# Altium schematic symbol library XSS_IC.SchLib: 440 symbols (part 4 of 4)
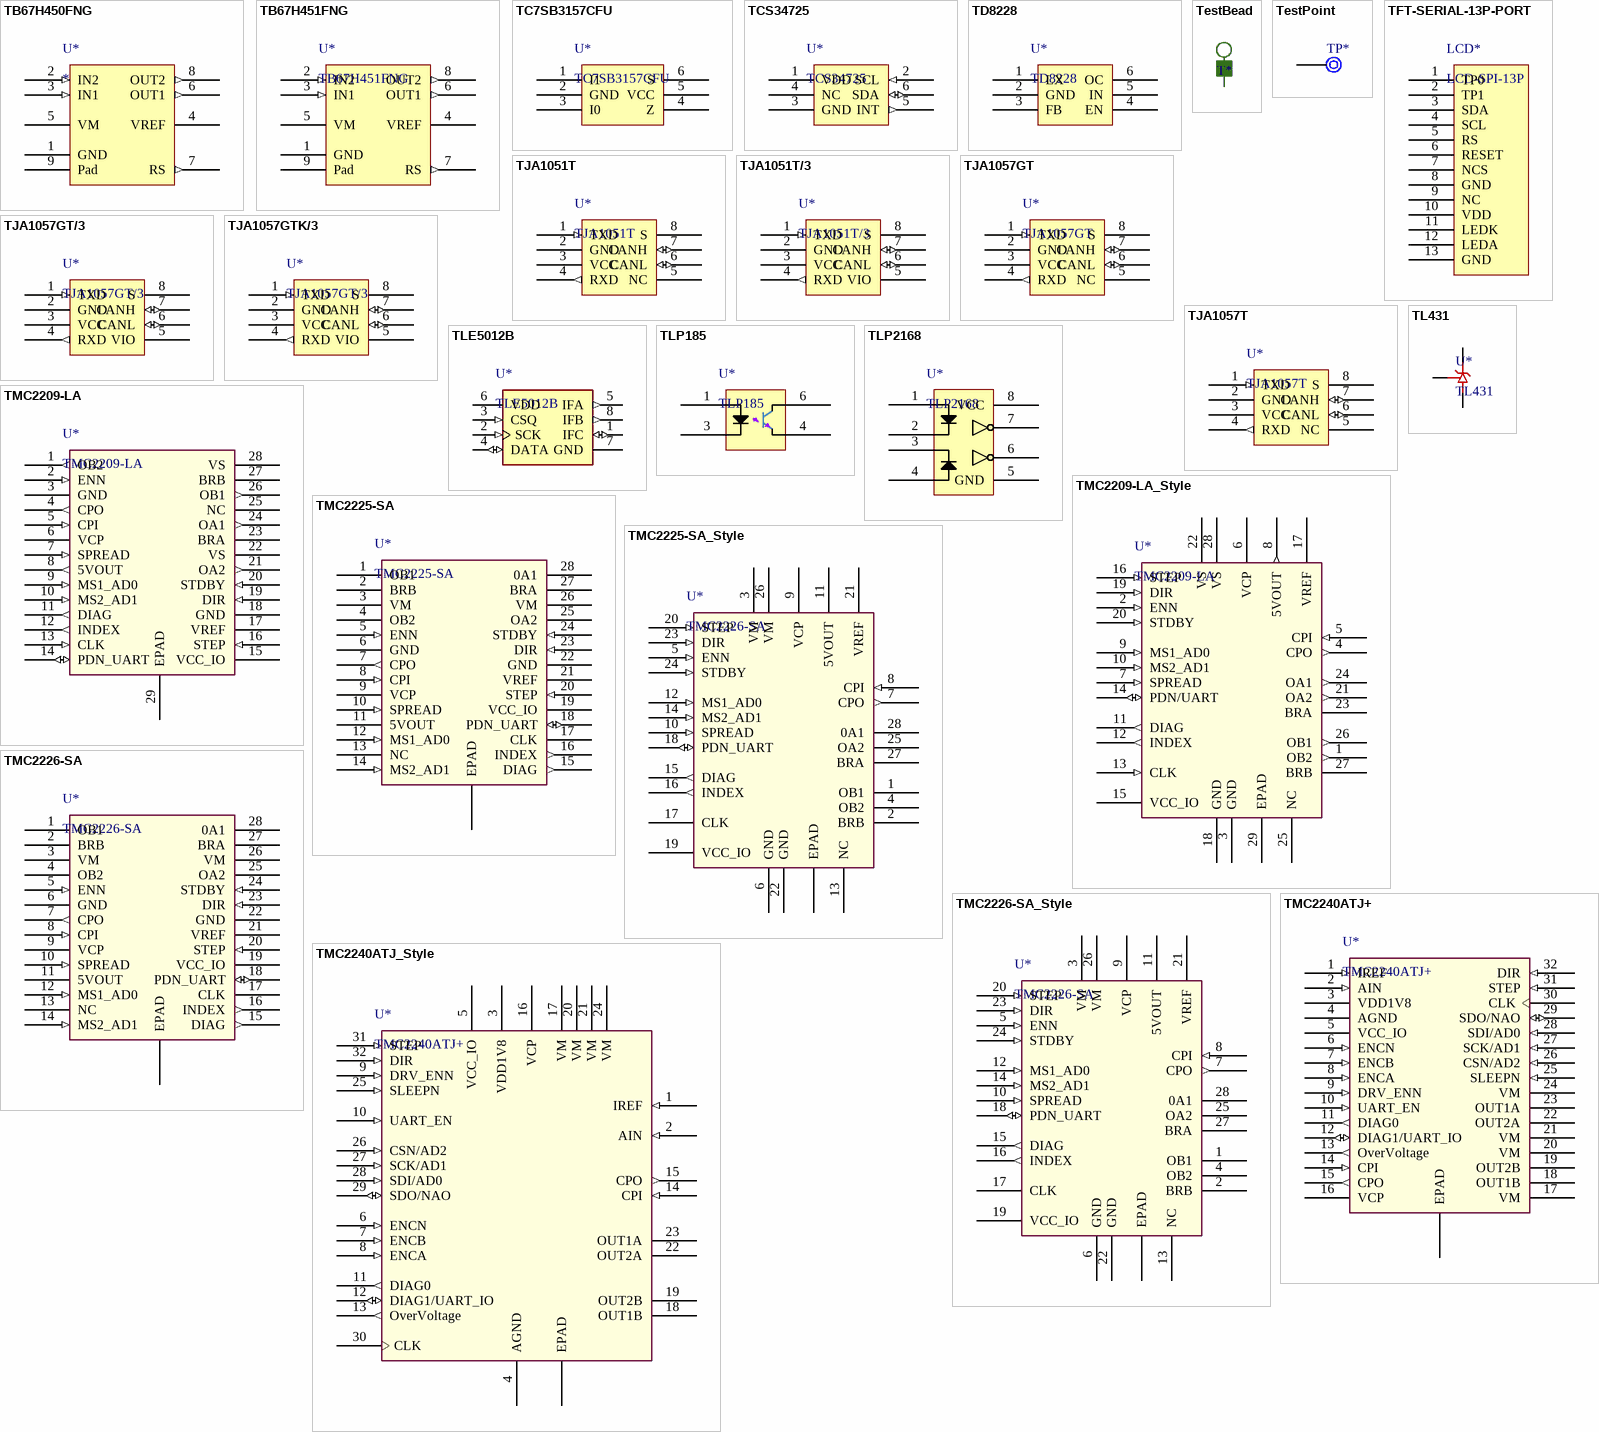
[diagram p16: symbols TB67H450FNG to TMC2240ATJ_Style]

## TCS34725
designator U*
The TCS3472 device provides a digital return of red, green, blue (RGB), and clear light sensing values.
footprint AMS_FN_6P (AMS Semi FN package,Small 2mm x 2.4mm dual flat no-lead)
pins: 1 VDD (power), 2 SCL (in), 3 GND (power), 4 NC, 5 INT (out), 6 SDA (io)

## TD8228
designator U*
Technode
footprint SOT23-6L
footprint SOT23-6AN (SOT23, 6-Leads, Body 2.9x1.6mm, Pitch 0.95mm, Lead Span 2.5mm, IPC Medium Density)
footprint SOT23-6AL
pins: 1 LX, 2 GND, 3 FB, 4 EN, 5 IN, 6 OC

## TestBead
designator T*, comment TestPoint  (value not drawn)
Test Point(bead) with hole
footprint TestBead_φ1.0 (test point(bead) package with a hole(φ1.0),Suit for small size)
footprint TestBead_φ1.6 (test point(bead) package with a hole(φ1.6). Suit for middle/large size)
pins: 1

## TestPoint
designator TP*, comment Test Point  (value not drawn)
footprint TURRETL
footprint TURRETL_SMALL
footprint TPSMD-Small
footprint TPSMD-Large
footprint TPSMD-Middle
footprint TPTRU_Header1
footprint HOLE_M3_AWG10 (Can solder ARG10 wires, hole diameter ia 3mm)
footprint HOLE_M1.8_AWG16 (Can solder ARG16/18 wires, hole diameter ia 1.8mm)
pins: 1

## TFT-SERIAL-13P-PORT
designator LCD*, comment LCD-SPI-13P
Small LCD(like 0.96/1.14 inch) with 13Pins. The interface can be solder on board directly.
footprint TFT-SERIAL-13P-PORT
pins: 1 TP0, 2 TP1, 3 SDA, 4 SCL, 5 RS, 6 RESET, 7 NCS, 8 GND, 9 NC, 10 VDD, 11 LEDK, 12 LEDA, 13 GND

## TJA1051T
designator U*
NXP, TJA1051, SO8, The TJA1051 is a high-speed CAN transceiver that provides an interface between a Controller Area Network (CAN) protocol controller and the physical two-wire CAN bus.
footprint SOIC_D8 (TI SOIC-D8)
footprint SOIC_D8-L (TI TI SOIC_D8 L)
footprint SOIC_D8-M (TI SOIC_D8 M)
pins: 1 TXD (in), 2 GND (power), 3 VCC (power), 4 RXD (out), 5 NC, 6 CANL (io), 7 CANH (io), 8 S

## TJA1051T/3
designator U*
NXP, TJA1051, SO8, VIO can support 3~5V,The TJA1051 is a high-speed CAN transceiver that provides an interface between a Controller Area Network (CAN) protocol controller and the physical two-wire CAN bus.
footprint SOIC_D8 (TI SOIC-D8)
footprint SOIC_D8-L (TI TI SOIC_D8 L)
footprint SOIC_D8-M (TI SOIC_D8 M)
pins: 1 TXD (in), 2 GND (power), 3 VCC (power), 4 RXD (out), 5 VIO, 6 CANL (io), 7 CANH (io), 8 S

## TJA1057GT
designator U*
NXP, 5V High-speed CAN transceiver, support CAN FD, SO8 package
footprint SOIC_D8 (TI SOIC-D8)
footprint SOIC_D8-L (TI TI SOIC_D8 L)
footprint SOIC_D8-M (TI SOIC_D8 M)
pins: 1 TXD (in), 2 GND (power), 3 VCC (power), 4 RXD (out), 5 NC, 6 CANL (io), 7 CANH (io), 8 S

## TJA1057GT/3
designator U*
NXP, 5V High-speed CAN transceiver, support3~5V IO, support CAN FD, SO8 package
footprint SOIC_D8 (TI SOIC-D8)
footprint SOIC_D8-L (TI TI SOIC_D8 L)
footprint SOIC_D8-M (TI SOIC_D8 M)
pins: 1 TXD (in), 2 GND (power), 3 VCC (power), 4 RXD (out), 5 VIO (power), 6 CANL (io), 7 CANH (io), 8 S

## TJA1057GTK/3
designator U*, comment TJA1057GT/3
NXP, 5V High-speed CAN transceiver, support3~5V IO, support CAN FD, HVSON8 package
footprint HVSON8
pins: 1 TXD (in), 2 GND (power), 3 VCC (power), 4 RXD (out), 5 VIO (power), 6 CANL (io), 7 CANH (io), 8 S

## TJA1057T
designator U*
NXP, 5V High-speed CAN transceiver, can not support CAN FD, SO8 package
footprint SOIC_D8 (TI SOIC-D8)
footprint SOIC_D8-L (TI TI SOIC_D8 L)
footprint SOIC_D8-M (TI SOIC_D8 M)
pins: 1 TXD (in), 2 GND (power), 3 VCC (power), 4 RXD (out), 5 NC, 6 CANL (io), 7 CANH (io), 8 S

## TL431
designator U*
TL431, Nexperia/MOD/TI( and others), ADJUSTABLE PRECISION SHUNT REGULATORS, 0.5%, ?PPM/℃
footprint SOT23 (Different with SOT-3 here. It is the normal pin sequence)
pins: 1, 2, 3

## TLE5012B
designator U*
Infineon, TLE5012B magnetic angle sensor for steering angle measurement. SOIC-8(PG-DSO-8) package.
footprint Infineon_PG-DSO-8 (Infineon, SOIC-8(PG-DSO-8), 5mm x 4mm)
pins: 1 IFC (io) "Interface C: External Clock / IIF Index / Hall Switch Signal 3", 2 SCK (in) "SSC Clock", 3 CSQ (in) "SSC Chip Select", 4 DATA (io) "SSC Data", 5 IFA (out) "Interface A: IIF Phase A / Hall Switch Signal 1 / PWM / SPC output", 6 VDD (power) "Supply Voltage", 7 GND (power) "Ground", 8 IFB (out) "Interface B: IIF Phase B / Hall Switch Signal 2"

## TLP185
designator U*
Toshiba, 4 PIN SOP Single CHANNEL Optocoupler
footprint Toshiba-Optocoupler-4PSOP6 (Toshiba Optocoupler Package 4Pin SOP6:  3.7×7.0×2.1)
pins: 1 A, 3 K, 4 S, 6 C

## TLP2168
designator U*
Toshiba, 8 PIN SOP DUAL CHANNEL HIGH SPEED / 20MBit/s LOGIC GATE PHOTOCOUPLER
footprint Toshiba-Optocoupler-SO8 (Toshiba Optocoupler Package SO8: 5.1×6.0×2.5)
pins: 1 1A, 2 1K, 3 2K, 4 2A, 5 GND, 6 2C, 7 1E, 8 VCC

## TMC2209-LA
designator U*
The TMC2209 is an ultra-silent motor driver / IC for two phase stepper motors.  From TRINAMIC. Package is QFN 28 with EPAD
footprint QFN28_5x5_TRI (trinamic motion driver package:QFN28. 5mmx5mm)
footprint QFN28_5x5_TRI-L (trinamic motion driver package:QFN28. 5mmx5mm)
footprint QFN28_5x5_TRI-M (trinamic motion driver package:QFN28. 5mmx5mm)
pins: 1 OB2 (out), 2 ENN (in), 3 GND (power), 4 CPO (out), 5 CPI (in), 6 VCP (power), 7 SPREAD (in), 8 5VOUT (out), 9 MS1_AD0 (in), 10 MS2_AD1 (in), 11 DIAG (out), 12 INDEX (out), 13 CLK (in), 14 PDN_UART (io), 15 VCC_IO (power), 16 STEP (in), 17 VREF, 18 GND (power), 19 DIR (in), 20 STDBY (in), 21 OA2 (out), 22 VS (power), 23 BRA, 24 OA1 (out), 25 NC, 26 OB1 (out), 27 BRB, 28 VS (power), 29 EPAD

## TMC2209-LA_Style
designator U*, comment TMC2209-LA
The TMC2209 is an ultra-silent motor driver / IC for two phase stepper motors.  From TRINAMIC. Package is QFN 28 with EPAD
footprint QFN28_5x5_TRI (trinamic motion driver package:QFN28. 5mmx5mm)
footprint QFN28_5x5_TRI-L (trinamic motion driver package:QFN28. 5mmx5mm)
footprint QFN28_5x5_TRI-M (trinamic motion driver package:QFN28. 5mmx5mm)
pins: 1 OB2 (out), 2 ENN (in), 3 GND (power), 4 CPO (out), 5 CPI (in), 6 VCP (power), 7 SPREAD (in), 8 5VOUT (out), 9 MS1_AD0 (in), 10 MS2_AD1 (in), 11 DIAG (out), 12 INDEX (out), 13 CLK (in), 14 PDN/UART (io), 15 VCC_IO (power), 16 STEP (in), 17 VREF (power), 18 GND (power), 19 DIR (in), 20 STDBY (in), 21 OA2 (out), 22 VS (power), 23 BRA, 24 OA1 (out), 25 NC, 26 OB1 (out), 27 BRB, 28 VS (power), 29 EPAD

## TMC2225-SA
designator U*
The TMC2225 from Trinamic provides an integrated motor driver solution for 3D-Printing, Cameras, Scanners and other automated equipment applications. The device has an integrated microstepping indexer, the completely noiseless current control mode StealthChop2™ and is intended to drive a bipolar stepper motor. The output driver block consists of low RDSon N-Channel power MOSFETs configured as full H-bridges to drive the motor windings. The TMC2225 is capable of driving up to 2A (peak) of current from each output (with proper heatsinking). TMC2225 is designed for a supply voltage of 4.75...36V. The device has a step and direction interface and can be configured with digital pins.; Phase Current, RMS: 1.4A; Motor Supply Voltage: 5~36V
footprint TMC_HTSSOP28_9.7x4.4 (trinamic HTSSOP28 package, size:9.7mm x 4.4mm, TMC2226 and TMC2225 use this footprint)
pins: 1 OB1, 2 BRB, 3 VM (power), 4 OB2, 5 ENN (in), 6 GND (power), 7 CPO (out), 8 CPI (in), 9 VCP, 10 SPREAD (in), 11 5VOUT (power), 12 MS1_AD0 (in), 13 NC, 14 MS2_AD1 (in), 15 DIAG (out), 16 INDEX (out), 17 CLK, 18 PDN_UART (io), 19 VCC_IO (power), 20 STEP (in), 21 VREF (power), 22 GND (power), 23 DIR (in), 24 STDBY (in), 25 OA2, 26 VM (power), 27 BRA, 28 0A1, EPAD

## TMC2225-SA_Style
designator U*, comment TMC2226-SA
The TMC2226 from Trinamic is an ultra-silent motor driver IC for two phase stepper motors. TRINAMIC's sophisticated StealthChop2™ chopper ensures noiseless operation, maximum efficiency and best motor torque. Its fast current regulation and optional combination with SpreadCycle™ allow highly dynamic motion while adding. StallGuard4™ provides sensorless homing. The integrated power MOSFETs handle motor currents up to 2A RMS with protection and diagnostic features for robust and reliable operation. A simple to use UART interface opens up tuning and control options. Industries’ most advanced Step/Dir stepper motor driver family upgrades designs to noiseless and most precise operation for cost-effective and highly competitive solutions.; Motor Supply Voltage: 5~36V; Phase Current, RMS: 1.4A
footprint TMC_HTSSOP28_9.7x4.4 (trinamic HTSSOP28 package, size:9.7mm x 4.4mm, TMC2226 and TMC2225 use this footprint)
pins: 1 OB1, 2 BRB, 3 VM (power), 4 OB2, 5 ENN (in), 6 GND (power), 7 CPO (out), 8 CPI (in), 9 VCP, 10 SPREAD (in), 11 5VOUT (power), 12 MS1_AD0 (in), 13 NC, 14 MS2_AD1 (in), 15 DIAG (out), 16 INDEX (out), 17 CLK, 18 PDN_UART (io), 19 VCC_IO (power), 20 STEP (in), 21 VREF (power), 22 GND (power), 23 DIR (in), 24 STDBY (in), 25 OA2, 26 VM (power), 27 BRA, 28 0A1, EPAD

## TMC2226-SA
designator U*
The TMC2226 from Trinamic is an ultra-silent motor driver IC for two phase stepper motors. TRINAMIC's sophisticated StealthChop2™ chopper ensures noiseless operation, maximum efficiency and best motor torque. Its fast current regulation and optional combination with SpreadCycle™ allow highly dynamic motion while adding. StallGuard4™ provides sensorless homing. The integrated power MOSFETs handle motor currents up to 2A RMS with protection and diagnostic features for robust and reliable operation. A simple to use UART interface opens up tuning and control options. Industries’ most advanced Step/Dir stepper motor driver family upgrades designs to noiseless and most precise operation for cost-effective and highly competitive solutions.; Motor Supply Voltage: 5~29V; Phase Current, RMS: 2.1A
footprint TMC_HTSSOP28_9.7x4.4 (trinamic HTSSOP28 package, size:9.7mm x 4.4mm, TMC2226 and TMC2225 use this footprint)
pins: 1 OB1, 2 BRB, 3 VM (power), 4 OB2, 5 ENN (in), 6 GND (power), 7 CPO (out), 8 CPI (in), 9 VCP, 10 SPREAD (in), 11 5VOUT (power), 12 MS1_AD0 (in), 13 NC, 14 MS2_AD1 (in), 15 DIAG (out), 16 INDEX (out), 17 CLK, 18 PDN_UART (io), 19 VCC_IO (power), 20 STEP (in), 21 VREF (power), 22 GND (power), 23 DIR (in), 24 STDBY (in), 25 OA2, 26 VM (power), 27 BRA, 28 0A1, EPAD

## TMC2226-SA_Style
designator U*, comment TMC2226-SA
The TMC2226 from Trinamic is an ultra-silent motor driver IC for two phase stepper motors. TRINAMIC's sophisticated StealthChop2™ chopper ensures noiseless operation, maximum efficiency and best motor torque. Its fast current regulation and optional combination with SpreadCycle™ allow highly dynamic motion while adding. StallGuard4™ provides sensorless homing. The integrated power MOSFETs handle motor currents up to 2A RMS with protection and diagnostic features for robust and reliable operation. A simple to use UART interface opens up tuning and control options. Industries’ most advanced Step/Dir stepper motor driver family upgrades designs to noiseless and most precise operation for cost-effective and highly competitive solutions.; Motor Supply Voltage: 5~29V; Phase Current, RMS: 2.1A
footprint TMC_HTSSOP28_9.7x4.4 (trinamic HTSSOP28 package, size:9.7mm x 4.4mm, TMC2226 and TMC2225 use this footprint)
pins: 1 OB1, 2 BRB, 3 VM (power), 4 OB2, 5 ENN (in), 6 GND (power), 7 CPO (out), 8 CPI (in), 9 VCP, 10 SPREAD (in), 11 5VOUT (power), 12 MS1_AD0 (in), 13 NC, 14 MS2_AD1 (in), 15 DIAG (out), 16 INDEX (out), 17 CLK, 18 PDN_UART (io), 19 VCC_IO (power), 20 STEP (in), 21 VREF (power), 22 GND (power), 23 DIR (in), 24 STDBY (in), 25 OA2, 26 VM (power), 27 BRA, 28 0A1, EPAD

## TMC2240ATJ+
designator U*
The TMC2240ATJ+ from Trinamic is a smart high-performance stepper motor driver IC with serial communication interfaces (SPI, UART) and extensive diagnosis capabilities. It combines industries’ most advanced stepper motor driver based on the 256-usteps built-in indexer and two fully integrated 36V, 3.0A (max) H-Bridges plus non-dissipative Integrated Current Sensing (ICS). / TMC2240 features abundant diagnostics and protections such as short protection / OCP, thermal shutdown, under voltage lockout. During thermal shutdown and under voltage lockout events the driver is disabled. Furthermore, TMC2240 provides functions to measure the driver temperature, estimate the motor temperature, and measure one external analog input.; Motor Supply Voltage: 4.5~36V; Phase Current, RMS: 2.1A
footprint TMC_TQFN32_5X5 (trinamic TQFN32_ package, size:5m x 5mm, TMC2240 use this footprint)
pins: 1 IREF (in), 2 AIN (in), 3 VDD1V8 (power), 4 AGND (power), 5 VCC_IO, 6 ENCN (in), 7 ENCB (in), 8 ENCA (in), 9 DRV_ENN (in), 10 UART_EN (in), 11 DIAG0 (out), 12 DIAG1/UART_IO (io), 13 OverVoltage (out), 14 CPI (in), 15 CPO (out), 16 VCP, 17 VM (power), 18 OUT1B, 19 OUT2B, 20 VM (power), 21 VM (power), 22 OUT2A, 23 OUT1A, 24 VM (power), 25 SLEEPN (in), 26 CSN/AD2 (in), 27 SCK/AD1 (in), 28 SDI/AD0 (in), 29 SDO/NAO (io), 30 CLK, 31 STEP (in), 32 DIR (in), EPAD

## TMC2240ATJ_Style
designator U*, comment TMC2240ATJ+
The TMC2240ATJ+ from Trinamic is a smart high-performance stepper motor driver IC with serial communication interfaces (SPI, UART) and extensive diagnosis capabilities. It combines industries’ most advanced stepper motor driver based on the 256-usteps built-in indexer and two fully integrated 36V, 3.0A (max) H-Bridges plus non-dissipative Integrated Current Sensing (ICS). / TMC2240 features abundant diagnostics and protections such as short protection / OCP, thermal shutdown, under voltage lockout. During thermal shutdown and under voltage lockout events the driver is disabled. Furthermore, TMC2240 provides functions to measure the driver temperature, estimate the motor temperature, and measure one external analog input.; Motor Supply Voltage: 4.5~36V; Phase Current, RMS: 2.1A
footprint TMC_TQFN32_5X5 (trinamic TQFN32_ package, size:5m x 5mm, TMC2240 use this footprint)
pins: 1 IREF (in), 2 AIN (in), 3 VDD1V8 (power), 4 AGND (power), 5 VCC_IO, 6 ENCN (in), 7 ENCB (in), 8 ENCA (in), 9 DRV_ENN (in), 10 UART_EN (in), 11 DIAG0 (out), 12 DIAG1/UART_IO (io), 13 OverVoltage (out), 14 CPI (in), 15 CPO (out), 16 VCP, 17 VM (power), 18 OUT1B, 19 OUT2B, 20 VM (power), 21 VM (power), 22 OUT2A, 23 OUT1A, 24 VM (power), 25 SLEEPN (in), 26 CSN/AD2 (in), 27 SCK/AD1 (in), 28 SDI/AD0 (in), 29 SDO/NAO (io), 30 CLK, 31 STEP (in), 32 DIR (in), EPAD

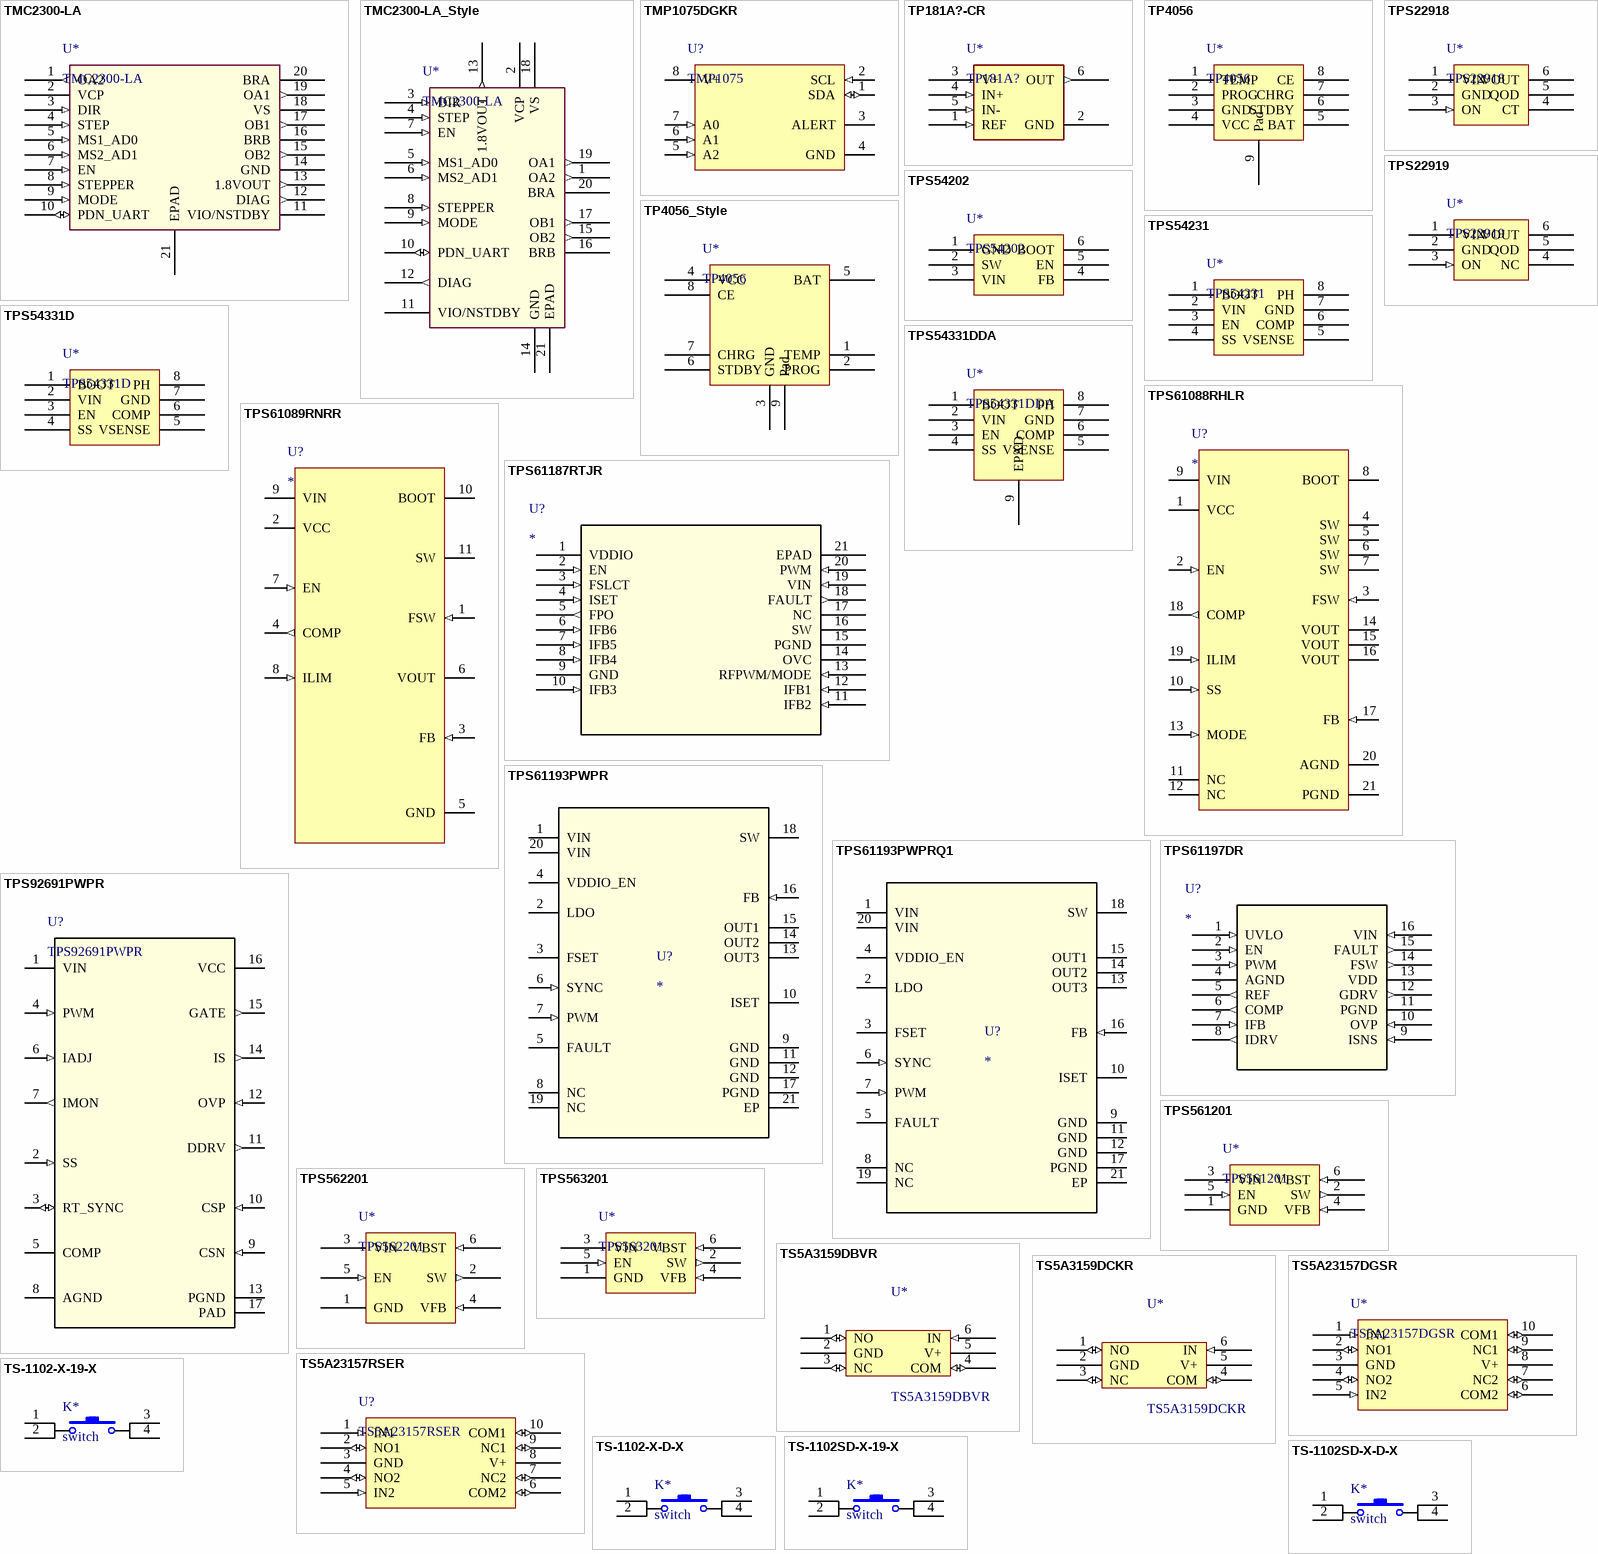
[diagram p12: symbols TMC2300-LA to TS-1102SD-X-D-X]

## TMC2300-LA
designator U*
TMC2300-LA from TRINAMIC.Low Voltage Driver for Two-Phase Stepper Motors up to 1.2A RMS - StealthChop™ for Quiet / Movement - UART Interface Option. With StallGuard Sensorless Homing and CoolStep Energy Saving.
footprint QFN20_3x3_TRI (trinamic motion driver package:QFN20. 3mmx3mm)
footprint QFN20_3x3_TRI-L (trinamic motion driver package:QFN20. 3mmx3mm)
footprint QFN20_3x3_TRI-M (trinamic motion driver package:QFN20. 3mmx3mm)
pins: 1 OA2 (out), 2 VCP (power), 3 DIR (in), 4 STEP (in), 5 MS1_AD0 (in), 6 MS2_AD1 (in), 7 EN (in), 8 STEPPER (in), 9 MODE (in), 10 PDN_UART (io), 11 VIO/NSTDBY, 12 DIAG (out), 13 1.8VOUT (out), 14 GND (power), 15 OB2 (out), 16 BRB, 17 OB1 (out), 18 VS (power), 19 OA1 (out), 20 BRA, 21 EPAD

## TMC2300-LA_Style
designator U*, comment TMC2300-LA
TMC2300-LA from TRINAMIC.Low Voltage Driver for Two-Phase Stepper Motors up to 1.2A RMS - StealthChop™ for Quiet / Movement - UART Interface Option. With StallGuard Sensorless Homing and CoolStep Energy Saving.
footprint QFN20_3x3_TRI (trinamic motion driver package:QFN20. 3mmx3mm)
footprint QFN20_3x3_TRI-L (trinamic motion driver package:QFN20. 3mmx3mm)
footprint QFN20_3x3_TRI-M (trinamic motion driver package:QFN20. 3mmx3mm)
pins: 1 OA2 (out), 2 VCP (power), 3 DIR (in), 4 STEP (in), 5 MS1_AD0 (in), 6 MS2_AD1 (in), 7 EN (in), 8 STEPPER (in), 9 MODE (in), 10 PDN_UART (io), 11 VIO/NSTDBY, 12 DIAG (out), 13 1.8VOUT (out), 14 GND (power), 15 OB2 (out), 16 BRB, 17 OB1 (out), 18 VS (power), 19 OA1 (out), 20 BRA, 21 EPAD

## TMP1075DGKR
designator U?, comment TMP1075
TI Temperature Sensor With I2C and SMBus Interface in Industry Standard LM75 / Form Factor and Pinout; Manufacturer_Part_Number: TMP1075DGKR; Vendor: Texas Instruments; Built_By: Texas_Instrument_Team; Copyright: Copyright (C) 2018 Accelerated Designs. All rights reserved; RefDes: RefDes; Type: DEV; Value: Value
footprint DGK0008A_N
pins: 1 SDA (io), 2 SCL (in), 3 ALERT (oc), 4 GND (power), 5 A2 (in), 6 A1 (in), 7 A0 (in), 8 V+ (power)

## TP181A?-CR
designator U*, comment TP181A?
3PEAK, TP181,Zero-Drift, Bi-directional Current Sense Amplifier, SC70-6 package
footprint SC70-6 (SC70-5, TI:DCK0006A)
pins: 1 REF (in), 2 GND (power), 3 V+ (power), 4 IN+ (in), 5 IN- (in), 6 OUT (out)

## TP4056
designator U*
tp-asic
footprint PSOP-8_N (8-Pin Small Outline Integrated Circuit 1.27 mm Pitch, IPC Medium Density)
footprint PSOP-8_M (8-Pin Small Outline Integrated Circuit 1.27 mm Pitch, IPC Low Density)
footprint PSOP-8_L (8-Pin Small Outline Integrated Circuit 1.27 mm Pitch, IPC High Density)
pins: 1 TEMP, 2 PROG, 3 GND, 4 VCC, 5 BAT, 6 STDBY, 7 CHRG, 8 CE, 9 Pad

## TP4056_Style
designator U*, comment TP4056
tp-asic
footprint PSOP-8_N (8-Pin Small Outline Integrated Circuit 1.27 mm Pitch, IPC Medium Density)
footprint PSOP-8_M (8-Pin Small Outline Integrated Circuit 1.27 mm Pitch, IPC Low Density)
footprint PSOP-8_L (8-Pin Small Outline Integrated Circuit 1.27 mm Pitch, IPC High Density)
pins: 1 TEMP, 2 PROG, 3 GND, 4 VCC, 5 BAT, 6 STDBY, 7 CHRG, 8 CE, 9 Pad

## TPS22918
designator U*
TI, TPS22918: 5.5-V, 2-A, 52-mΩ On-Resistance Load Switch / SOT23-6; ComponentLink1Description: Datasheet; ComponentLink1URL: https://www.richtek.com/assets/product_file/RT9193/DS9193-17.pdf; ComponentLink2Description: Website; ComponentLink2URL: https://www.richtek.com/Products/Linear%20Regulator/Single%20Output%20Linear%20Regulator/RT9193?sc_lang=en
footprint SOT-23-6
pins: 1 VIN (power), 2 GND (power), 3 ON (in), 4 CT, 5 QOD (power), 6 VOUT (power)

## TPS22919
designator U*
TI, TPS22919: TPS22919 5.5 V, 1.5 A, 90-mΩ Self-Protected Load Switch with Controlled Rise Time. SC70-6; ComponentLink1Description: Datasheet; ComponentLink1URL: https://www.richtek.com/assets/product_file/RT9193/DS9193-17.pdf; ComponentLink2Description: Website; ComponentLink2URL: https://www.richtek.com/Products/Linear%20Regulator/Single%20Output%20Linear%20Regulator/RT9193?sc_lang=en
footprint SC70-6 (SC70-5, TI:DCK0006A)
pins: 1 VIN (power), 2 GND (power), 3 ON (in), 4 NC, 5 QOD (power), 6 VOUT (power)

## TPS54202
designator U*
TPS54202 4.5-V to 28-V Input, 2-A Output, EMI Friendly Synchronous Step Down Converter
footprint DDC0006A (TI, SOT-23-6 thin)
pins: 1 GND (power), 2 SW (power), 3 VIN (power), 4 FB (power), 5 EN (power), 6 BOOT (power)

## TPS54231
designator U*
TPS54231 2-A, 28-V Input, Step-Down DC-DC Converter With Eco-mode™
footprint D0008A (TI D0008A(R-PDSO-G8) package with 6mmx3.85mm size, known as soic-8)
pins: 1 BOOT (power), 2 VIN (power), 3 EN (power), 4 SS (power), 5 VSENSE (power), 6 COMP (power), 7 GND (power), 8 PH (power)

## TPS54331D
designator U*
TPS54331 3-A, 28-V Input, Step Down DC-DC Converter With Eco-mode™.Package is SOIC(footprint:D0008A)
footprint D0008A (TI D0008A(R-PDSO-G8) package with 6mmx3.85mm size, known as soic-8)
pins: 1 BOOT (power), 2 VIN (power), 3 EN (power), 4 SS (power), 5 VSENSE (power), 6 COMP (power), 7 GND (power), 8 PH (power)

## TPS54331DDA
designator U*
TPS54331 3-A, 28-V Input, Step Down DC-DC Converter With Eco-mode™.Package is SO PowerPAD(footprint:DDA)
footprint DDA8_3X2p13
footprint DDA8_3X2p13-L
footprint DDA8_3X2p13-M
pins: 1 BOOT (power), 2 VIN (power), 3 EN (power), 4 SS (power), 5 VSENSE (power), 6 COMP (power), 7 GND (power), 8 PH (power), 9 EPAD (power)

## TPS61088RHLR
designator U?
The TPS61088 is a high power density, fully integrated synchronous boost converter with a 11-mΩ power switch and a 13-mΩ rectifier switch to provide a high efficiency and small size solution in portable systems. The TPS61088 has wide input voltage range from 2.7 V to 12 V to support applications with single cell or two cell Lithium batteries. The device has 10-A switch current capability and is capable of providing an output voltage up to 12.6 V.; PartNumber: TPS61088RHLR; Alternate_PartNumber: TPS61088RHLT; Manufacturer: Texas Instruments; CompType: IC; PIN_COUNT: 21; Application_BuildNumber: *; PackageReference: RHL0020A; MountType: SMT; RoHS: Y; RefDes: RefDes; Type: DEV; Value: Value; Copyright: Copyright (C) 2018 Accelerated Designs. All rights reserved; ComponentLink1Description: TI China Link; ComponentLink1URL: http://www.ti.com.cn/product/cn/TPS61088
footprint RHL0020A
footprint RHL0020A-L (Large package for manual solder)
pins: 1 VCC (power), 2 EN (in), 3 FSW (in), 4 SW (power), 5 SW (power), 6 SW (power), 7 SW (power), 8 BOOT (power), 9 VIN (power), 10 SS (in), 11 NC, 12 NC, 13 MODE (in), 14 VOUT (power), 15 VOUT (power), 16 VOUT (power), 17 FB (in), 18 COMP (out), 19 ILIM (in), 20 AGND (power), 21 PGND (power)

## TPS61089RNRR
designator U?
The TPS61089x represents the TPS61089 and the TPS610891. The TPS61089x is a fully-integrated synchronous boost converter with a 19-mΩ main power switch and a 27-mΩ rectifier switch. The device provides a high efficiency and small size power solution for portable equipment. The TPS61089x features wide input voltage range from 2.7 V to 12 V to support applications powered with single cell or two cell Lithium ion/polymer batteries. The TPS61089x has 7-A continuous switch current capability and provides output voltage up to 12.6 V.; PartNumber: TPS61089RNRR; Manufacturer: Texas Instruments; RefDes: RefDes; Type: DEV; Value: Value; Copyright: Copyright (C) 2018 Accelerated Designs. All rights reserved; ComponentLink1Description: TI China Link; ComponentLink1URL: http://www.ti.com.cn/product/cn/TPS61089
footprint RNR0011A
pins: 1 FSW (in), 2 VCC (power), 3 FB (in), 4 COMP (out), 5 GND (power), 6 VOUT (power), 7 EN (in), 8 ILIM (in), 9 VIN (power), 10 BOOT (power), 11 SW (power)

## TPS61187RTJR
designator U?
TI LED Backlight BOOST Driver, 6 channels. Imported from Ultra Librarian.; Manufacturer_Part_Number: tps61187rtjr; Vendor: Texas Instruments; Built_By: EMA_UL_Team; C: Copyright (C) 2016 Accelerated Designs. All rights reserved; Value: Value; Type: Type; RefDes: RefDes
footprint TI_RTJ20_2P7X2P7 (TI TPS61187)
pins: 1 VDDIO (power), 2 EN (in), 3 FSLCT (in), 4 ISET (in), 5 FPO (out), 6 IFB6 (in), 7 IFB5 (in), 8 IFB4 (in), 9 GND (power), 10 IFB3 (in), 11 IFB2 (in), 12 IFB1 (in), 13 RFPWM/MODE (in), 14 OVC, 15 PGND (power), 16 SW, 17 NC, 18 FAULT (out), 19 VIN (in), 20 PWM (in), 21 EPAD

## TPS61193PWPR
designator U?
TI 3-channel LED driver.Imported from UL; PartNumber: TPS61193PWPR; Manufacturer: Texas Instruments; RefDes: RefDes; TYPE: TYPE; Value: Value
footprint PWP0020D_N
footprint PWP0020D_M
footprint PWP0020D_L
pins: 1 VIN (power), 2 LDO (power), 3 FSET, 4 VDDIO_EN (power), 5 FAULT (oc), 6 SYNC (in), 7 PWM (in), 8 NC, 9 GND (power), 10 ISET, 11 GND (power), 12 GND (power), 13 OUT3 (power), 14 OUT2 (power), 15 OUT1 (power), 16 FB (in), 17 PGND (power), 18 SW (power), 19 NC, 20 VIN (power), 21 EP (power)

## TPS61193PWPRQ1
designator U?
TI 3-channel LED driver.Imported from UL; PartNumber: TPS61193PWPRQ1; Manufacturer: Texas Instruments; CompType: IC; PIN_COUNT: 21; Application_BuildNumber: *; PackageReference: PWP0020D; MountType: SMT; RefDes: RefDes; TYPE: TYPE; Value: Value
footprint PWP0020D_N
footprint PWP0020D_L
footprint PWP0020D_M
pins: 1 VIN (power), 2 LDO (power), 3 FSET, 4 VDDIO_EN (power), 5 FAULT (oc), 6 SYNC (in), 7 PWM (in), 8 NC, 9 GND (power), 10 ISET, 11 GND (power), 12 GND (power), 13 OUT3 (power), 14 OUT2 (power), 15 OUT1 (power), 16 FB (in), 17 PGND (power), 18 SW (power), 19 NC, 20 VIN (power), 21 EP (power)

## TPS61197DR
designator U?
TI LED Backlight BOOST Driver. Imported from Ultra Librarian.; Manufacturer_Part_Number: tps61197dr; Vendor: Texas Instruments; Built_By: EMA_UL_Team; C: Copyright (C) 2016 Accelerated Designs. All rights reserved; Value: Value; Type: Type; RefDes: RefDes
footprint TI_D16
footprint TI_D16-L
footprint TI_D16-M
pins: 1 UVLO (in), 2 EN (in), 3 PWM (in), 4 AGND (power), 5 REF (out), 6 COMP (out), 7 IFB (in), 8 IDRV (out), 9 ISNS (in), 10 OVP (in), 11 PGND (power), 12 GDRV (out), 13 VDD (power), 14 FSW (out), 15 FAULT (out), 16 VIN (in)

## TPS92691PWPR
designator U?
TPS92691: Multi-Topology LED Driver with Rail-to-Rail Current Sense Amplifier From TI.; Manufacturer: Texas Instruments; PartNumber: TPS92691PWPR; RefDes: RefDes; TYPE: TYPE; Value: Value
footprint PWP0016J_N
footprint PWP0016J_M
footprint PWP0016J_L
pins: 1 VIN (power), 2 SS (in), 3 RT_SYNC (io), 4 PWM (in), 5 COMP, 6 IADJ (in), 7 IMON (out), 8 AGND (power), 9 CSN (in), 10 CSP (in), 11 DDRV (out), 12 OVP (in), 13 PGND (power), 14 IS (out), 15 GATE (out), 16 VCC (power), 17 PAD

## TPS561201
designator U*
TPS561201 4.5-V to 17-V Input, 1-A Synchronous Step-Down Voltage Regulator in 6-Pin SOT-23
footprint DDC0006A (TI, SOT-23-6 thin)
pins: 1 GND (power), 2 SW (out), 3 VIN (power), 4 VFB (in), 5 EN (in), 6 VBST (in)

## TPS562201
designator U*
TPS562201 4.5-V to 17-V Input, 2-A Synchronous Step-Down Voltage Regulator in 6-Pin SOT-23
footprint DDC0006A (TI, SOT-23-6 thin)
pins: 1 GND (power), 2 SW (out), 3 VIN (power), 4 VFB (in), 5 EN (in), 6 VBST (in)

## TPS563201
designator U*
TPS563201 4.5-V to 17-V Input, 3-A Synchronous Step-Down Voltage Regulator in 6-Pin SOT-23
footprint DDC0006A (TI, SOT-23-6 thin)
pins: 1 GND (power), 2 SW (out), 3 VIN (power), 4 VFB (in), 5 EN (in), 6 VBST (in)

## TS5A3159DBVR
designator U*
1-Ohm SPDT Analog Switch,SOT23-6; Manufacturer_Part_Number: TS5A3159DCKR; Vendor: Texas Instruments; PIN_COUNT: 6; FAMILY_NAME: ANALOG SWITCH OR MULTIPLEXER (less than or equal to 5V); INDUSTRY_STD_PKG_TYPE: SC70; PACKAGE_DESIGNATOR: DCK; GENERIC_PART_NUMBER: TS5A3159; Datasheet_URL: http://www.ti.com/lit/gpn/TS5A3159; Manufacturer: Texas Instruments; Copyright: Copyright (C) 2021 Accelerated Designs. All rights reserved; RefDes: RefDes; Type: DEV
footprint TI_DBV0006A (TI DBV package,SOT23-6)
pins: 1 NO (io), 2 GND (power), 3 NC (io), 4 COM (io), 5 V+ (power), 6 IN (in)

## TS5A3159DCKR
designator U*
1-Ohm SPDT Analog Switch,SC70-6; Vendor: Texas Instruments; PIN_COUNT: 6; FAMILY_NAME: ANALOG SWITCH OR MULTIPLEXER (less than or equal to 5V); INDUSTRY_STD_PKG_TYPE: SC70; PACKAGE_DESIGNATOR: DCK; Manufacturer_Part_Number: TS5A3159DCKR; GENERIC_PART_NUMBER: TS5A3159; Datasheet_URL: http://www.ti.com/lit/gpn/TS5A3159; Manufacturer: Texas Instruments; Copyright: Copyright (C) 2021 Accelerated Designs. All rights reserved; RefDes: RefDes; Type: DEV
footprint TI_DCK6 (TI DCK6, SC70-6)
pins: 1 NO (io), 2 GND (power), 3 NC (io), 4 COM (io), 5 V+ (power), 6 IN (in)

## TS5A23157DGSR
designator U*
TI, Dual 10-Ohm SPDT Analog Switch, VSSOP-10(same as MSOP-10), 1.8~5.5V; Manufacturer_Part_Number: TS5A23157RSER; Vendor: Texas Instruments; PACKAGE_DESIGNATOR: RSE; PIN_COUNT: 10; FAMILY_NAME: ANALOG SWITCH OR MULTIPLEXER (less than or equal to 5V); INDUSTRY_STD_PKG_TYPE: UQFN; GENERIC_PART_NUMBER: TS5A23157; Datasheet_URL: http://www.ti.com/lit/gpn/TS5A23157; Manufacturer: Texas Instruments; Copyright: Copyright (C) 2021 Accelerated Designs. All rights reserved; RefDes: RefDes; Type: DEV
footprint TI_DGS10 (TI, DGS-10P, VSSOP-10(MSOP-10))
pins: 1 IN1 (in), 2 NO1 (io), 3 GND (power), 4 NO2 (io), 5 IN2 (in), 6 COM2 (io), 7 NC2 (io), 8 V+ (power), 9 NC1 (io), 10 COM1 (io)

## TS5A23157RSER
designator U?
TI, Dual 10-Ohm SPDT Analog Switch, UQFN-10, 1.8~5.5V; Vendor: Texas Instruments; PACKAGE_DESIGNATOR: RSE; PIN_COUNT: 10; FAMILY_NAME: ANALOG SWITCH OR MULTIPLEXER (less than or equal to 5V); INDUSTRY_STD_PKG_TYPE: UQFN; Manufacturer_Part_Number: TS5A23157RSER; GENERIC_PART_NUMBER: TS5A23157; Datasheet_URL: http://www.ti.com/lit/gpn/TS5A23157; Manufacturer: Texas Instruments; Copyright: Copyright (C) 2021 Accelerated Designs. All rights reserved; RefDes: RefDes; Type: DEV
footprint TI_RSE10 (TI, RSE10, UQFN-10)
pins: 1 IN1 (in), 2 NO1 (io), 3 GND (power), 4 NO2 (io), 5 IN2 (in), 6 COM2 (io), 7 NC2 (io), 8 V+ (power), 9 NC1 (io), 10 COM1 (io)

## TS-1102-X-19-X
designator K*, comment switch
XKB Pushbutton with 4 pins, TS-1102 series, hight 19mm. Others: from 0.5 to 19 mm
footprint TS-1102-X-19-X (6mm*6mm*19mm, XKB TS-1102 series swich, hight:19mm)
pins: 1, 2, 3, 4

## TS-1102-X-D-X
designator K*, comment switch
XKB Pushbutton with 4 pins, TS-1102 series, hight 5mm. Others: from 0.5 to 19 mm
footprint TS-1102-X-D-X (6mm*6mm*5mm, XKB TS-1102 series swich, hight:5mm)
pins: 1, 2, 3, 4

## TS-1102SD-X-19-X
designator K*, comment switch
XKB Pushbutton with 4 pins, TS-1102SD series, hight 19mm. Others: from 0.5 to 19 mm
footprint TS-1102SD-X-19-X (6mm*6mm*19mm, XKB TS-1102SD series swich, hight:19mm)
pins: 1, 2, 3, 4

## TS-1102SD-X-D-X
designator K*, comment switch
XKB Pushbutton with 4 pins, TS-1102SD series, hight 5mm. Others: from 0.5 to 19 mm
footprint TS-1102SD-X-D-X (6mm*6mm*5mm, XKB TS-1102SD series swich, hight:5mm)
pins: 1, 2, 3, 4

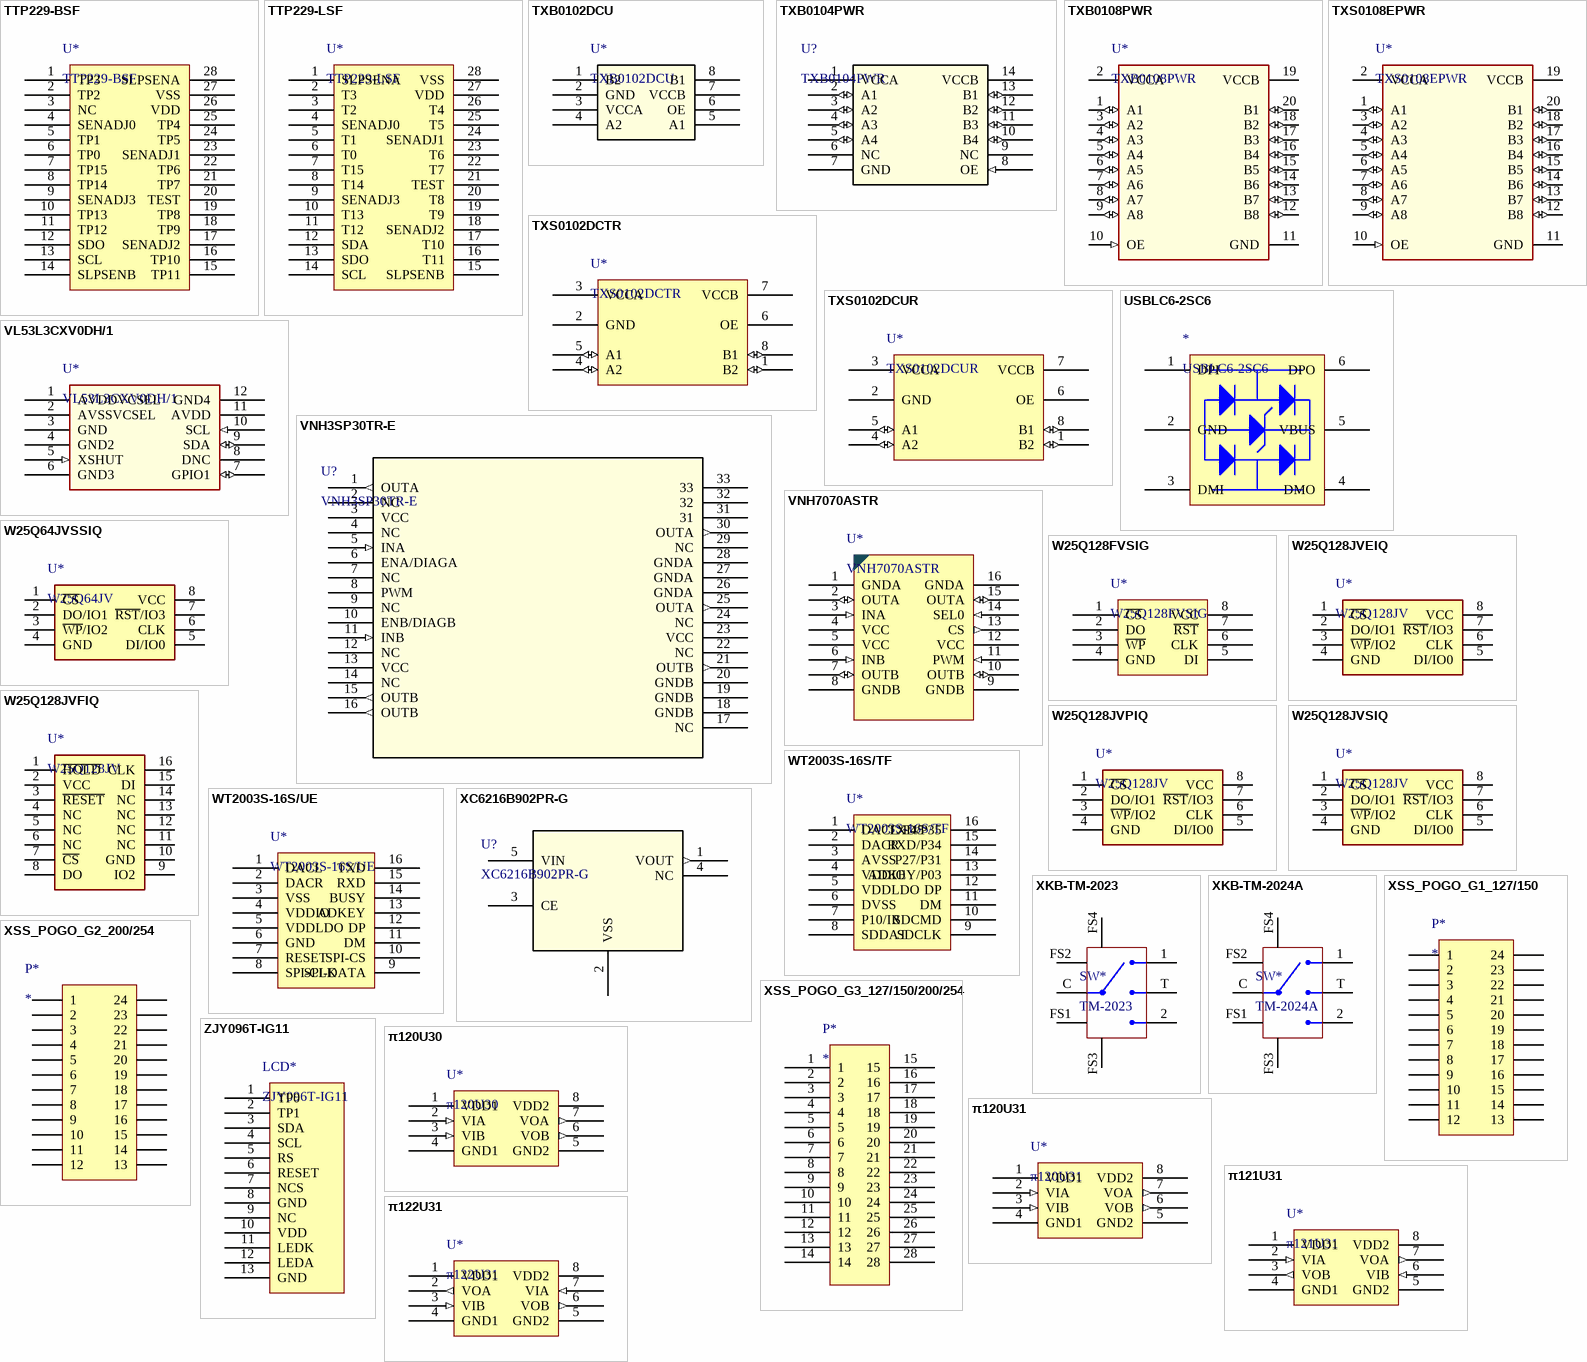
[diagram p13: symbols TTP229-BSF to π122U31]

## TTP229-BSF
designator U*
16Keys,SPI/Direct,  http://www.tontek.com.tw/uploads/product/97/TTP229-BSF_V1.1_EN.pdf
footprint SSOP-28 (SSOP, Plastic; 28 Leads; Body Width 5.2 mm; Pitch 0.65 mm)
footprint TTP229-SSOP28
pins: 1 TP3, 2 TP2, 3 NC, 4 SENADJ0, 5 TP1, 6 TP0, 7 TP15, 8 TP14, 9 SENADJ3, 10 TP13, 11 TP12, 12 SDO, 13 SCL, 14 SLPSENB, 15 TP11, 16 TP10, 17 SENADJ2, 18 TP9, 19 TP8, 20 TEST, 21 TP7, 22 TP6, 23 SENADJ1, 24 TP5, 25 TP4, 26 VDD, 27 VSS, 28 SLPSENA

## TTP229-LSF
designator U*
16Keys,I2C/Direct,  http://www.tontek.com.tw/uploads/product/106/TTP229-LSF_V1.0_EN.pdf
footprint SSOP-28 (SSOP, Plastic; 28 Leads; Body Width 5.2 mm; Pitch 0.65 mm)
footprint TTP229-SSOP28 (fellowing th package in dadasheet of TTP229-LSF)
pins: 1 SLPSENA, 2 T3, 3 T2, 4 SENADJ0, 5 T1, 6 T0, 7 T15, 8 T14, 9 SENADJ3, 10 T13, 11 T12, 12 SDA, 13 SDO, 14 SCL, 15 SLPSENB, 16 T11, 17 T10, 18 SENADJ2, 19 T9, 20 T8, 21 TEST, 22 T7, 23 T6, 24 SENADJ1, 25 T5, 26 T4, 27 VDD, 28 VSS

## TXB0102DCU
designator U*
TXB0102 2-Bit Bidirectional Voltage-Level Translator With Auto Direction Sensing and ±15-kV ESD Protection
footprint VSSOP8_DCU (TI VSSOP(8),DCU,2.30mm x 2.00mm)
pins: 1 B2, 2 GND, 3 VCCA, 4 A2, 5 A1, 6 OE, 7 VCCB, 8 B1

## TXB0104PWR
designator U?
TXB0104PWR, TI,With +/-15kV ESD   Auto bidirectional voltage translation, TSSOP; Vendor: Texas Instruments; Built_By: EMA_UL_Team; C: Copyright (C) 2015 Accelerated Designs. All rights reserved; Manufacturer_Part_Number: TXB0104PWR; Value: Value; Type: Type; RefDes: RefDes
footprint PW14
footprint PW14-L
footprint PW14-M
pins: 1 VCCA (power), 2 A1 (io), 3 A2 (io), 4 A3 (io), 5 A4 (io), 6 NC, 7 GND (power), 8 OE (in), 9 NC, 10 B4 (io), 11 B3 (io), 12 B2 (io), 13 B1 (io), 14 VCCB (power)

## TXB0108PWR
designator U*
TI, TXB0108PWR, 8-Bit Bidirectional Voltage-Level Shifter with Auto Direction Sensing and +/-15-kV ESD Protect. TSSOP20
footprint PW0020A (TI TXB0108 PW Package, TSSOP-20)
pins: 1 A1 (io), 2 VCCA (power), 3 A2 (io), 4 A3 (io), 5 A4 (io), 6 A5 (io), 7 A6 (io), 8 A7 (io), 9 A8 (io), 10 OE (in), 11 GND (power), 12 B8 (io), 13 B7 (io), 14 B6 (io), 15 B5 (io), 16 B4 (io), 17 B3 (io), 18 B2 (io), 19 VCCB (power), 20 B1 (io)

## TXS0102DCTR
designator U*
TI, TXS0102DCTR, 2-Bit Bidirectional Voltage-Level Shifter for Open-Drain and Push-Pull Application, SSOP-8, 2.95mm x 2.80mm
footprint DCT0008A (TI DCT0008A(SSOP-8))
pins: 1 B2 (io), 2 GND, 3 VCCA, 4 A2 (io), 5 A1 (io), 6 OE, 7 VCCB, 8 B1 (io)

## TXS0102DCUR
designator U*
TI, TXS0102DCUR, 2-Bit Bidirectional Voltage-Level Shifter for Open-Drain and Push-Pull Application, VSSOP-8, 2.30mm x 2.00mm
footprint DCU0008A (TI DCU0008A(VSSOP-8) package)
pins: 1 B2 (io), 2 GND, 3 VCCA, 4 A2 (io), 5 A1 (io), 6 OE, 7 VCCB, 8 B1 (io)

## TXS0108EPWR
designator U*
TI, TXS0108EPWR, 8-Bit Bi-directional, Level-Shifting, Voltage Translator / for Open-Drain and Push-Pull Applications. TSSOP20
footprint PW20 (TI TXS0108E PW Package, TSSOP-20)
pins: 1 A1 (io), 2 VCCA (power), 3 A2 (io), 4 A3 (io), 5 A4 (io), 6 A5 (io), 7 A6 (io), 8 A7 (io), 9 A8 (io), 10 OE (in), 11 GND (power), 12 B8 (io), 13 B7 (io), 14 B6 (io), 15 B5 (io), 16 B4 (io), 17 B3 (io), 18 B2 (io), 19 VCCB (power), 20 B1 (io)

## USBLC6-2SC6
designator *
ST,USBLC6-2SC6,Very low capacitance ESD protection,SOT23-6L
footprint SOT23-6L
footprint SOT-23-6
pins: 1 DPI, 2 GND, 3 DMI, 4 DMO, 5 VBUS, 6 DPO

## VL53L3CXV0DH/1
designator U*
ST,VL53L3CX, Time-of-Flight ranging sensor with multi target detection, 4.4 x 2.4 x 1 mm
footprint QFN_CXV0DH/1_STM (ST VL53L3CX packages, 4.4x2.4x1.0)
pins: 1 AVDDVCSEL (power), 2 AVSSVCSEL (power), 3 GND (power), 4 GND2 (power), 5 XSHUT (in), 6 GND3 (power), 7 GPIO1 (io), 8 DNC, 9 SDA (io), 10 SCL (in), 11 AVDD (power), 12 GND4 (power)

## VNH3SP30TR-E
designator U?
St Motor driver. 36V,30A.Imported from UL.; Manufacturer_Part_Number: VNH3SP30-E; Vendor: STMicroelectronics; Built_By: EMA_UL_Team; C: Copyright (C) 2015 Accelerated Designs. All rights reserved; Value: Value; Type: Type; RefDes: RefDes
footprint MultiPowerSO-30 (ST Motor Driver package. Like VNH3SP30TR-E)
pins: 1 OUTA (out), 2 NC, 3 VCC (power), 4 NC, 5 INA (in), 6 ENA/DIAGA, 7 NC, 8 PWM, 9 NC, 10 ENB/DIAGB, 11 INB (in), 12 NC, 13 VCC (power), 14 NC, 15 OUTB (out), 16 OUTB (out), 17 NC, 18 GNDB (power), 19 GNDB (power), 20 GNDB (power), 21 OUTB (out), 22 NC, 23 VCC (power), 24 NC, 25 OUTA (out), 26 GNDA (power), 27 GNDA (power), 28 GNDA (power), 29 NC, 30 OUTA (out), 31, 32, 33

## VNH7070ASTR
designator U*
VNH7070ASTR,Motor Driver of ST,28V,15A,70mΩ
footprint ST-MD-SO-16N (ST SO-16N ECOPACK)
pins: 1 GNDA (power), 2 OUTA (io), 3 INA (in), 4 VCC (power), 5 VCC (power), 6 INB (in), 7 OUTB (io), 8 GNDB (power), 9 GNDB (power), 10 OUTB (io), 11 PWM (in), 12 VCC (power), 13 CS (out), 14 SEL0 (in), 15 OUTA (io), 16 GNDA (power)

## W25Q64JVSSIQ
designator U*, comment W25Q64JV
winbond, 3V 64M-BIT SERIAL FLASH MEMORY WITH DUAL/QUAD SPI,SOIC-8, 208mil
footprint SOIC8_208mil (SPI-FLASH: SOIC8-208mil or SOP-208mil)
pins: 1 ~{CS}, 2 DO/IO1, 3 ~{WP}/IO2, 4 GND, 5 DI/IO0, 6 CLK, 7 ~{RST}/IO3, 8 VCC

## W25Q128FVSIG
designator U*
Winbond Serial Flash, 128Mbit, 2.7V~3.6V,104MHz, SOIC8 208 mil
footprint SOIC8_208MIL (SPI-FLASH: SOIC8-208mil or SOP-208mil)
pins: 1 ~{CS}, 2 DO, 3 ~{WP}, 4 GND, 5 DI, 6 CLK, 7 ~{RST}, 8 VCC

## W25Q128JVEIQ
designator U*, comment W25Q128JV
winbond, 3V 128M-BIT SERIAL FLASH MEMORY WITH DUAL/QUAD SPI, WSON-8, 8x6mm
footprint WSON8_8x6mm (winbond, WSON-8, 8x6mm)
pins: 1 ~{CS}, 2 DO/IO1, 3 ~{WP}/IO2, 4 GND, 5 DI/IO0, 6 CLK, 7 ~{RST}/IO3, 8 VCC

## W25Q128JVFIQ
designator U*, comment W25Q128JV
winbond, 3V 128M-BIT SERIAL FLASH MEMORY WITH DUAL/QUAD SPI, SOIC-16, 300mil
footprint SOIC16_300mil (winbond, SOIC-16, 300-mil)
pins: 1 ~{HOLD}, 2 VCC, 3 ~{RESET}, 4 NC, 5 NC, 6 NC, 7 ~{CS}, 8 DO, 9 IO2, 10 GND, 11 NC, 12 NC, 13 NC, 14 NC, 15 DI, 16 CLK

## W25Q128JVPIQ
designator U*, comment W25Q128JV
winbond, 3V 128M-BIT SERIAL FLASH MEMORY WITH DUAL/QUAD SPI, WSON-8, 6x5mm
footprint WSON8_6x5mm (Winbond, WSON-8, 6x5-mm)
pins: 1 ~{CS}, 2 DO/IO1, 3 ~{WP}/IO2, 4 GND, 5 DI/IO0, 6 CLK, 7 ~{RST}/IO3, 8 VCC

## W25Q128JVSIQ
designator U*, comment W25Q128JV
winbond, 3V 128M-BIT SERIAL FLASH MEMORY WITH DUAL/QUAD SPI,SOIC-8, 208mil
footprint SOIC8_208mil (SPI-FLASH: SOIC8-208mil or SOP-208mil)
pins: 1 ~{CS}, 2 DO/IO1, 3 ~{WP}/IO2, 4 GND, 5 DI/IO0, 6 CLK, 7 ~{RST}/IO3, 8 VCC

## WT2003S-16S/TF
designator U*
WT2003S-16S at TF Card Mode . A Audio Decoder Chip from waytronic. Which can support  with 8~48KHz MP3 or 8~44.1KHz WAV.; ComponentLink1Description: Webaite; ComponentLink1URL: http://www.waytronic.com/ProductsStd_287.html
footprint WT2003S-16S
pins: 1 DACL/P45, 2 DACR, 3 AVSS, 4 VDDIO, 5 VDDLDO, 6 DVSS, 7 P10/IR, 8 SDDAT, 9 SDCLK, 10 SDCMD, 11 DM, 12 DP, 13 ADKEY/P03, 14 P27/P31, 15 RXD/P34, 16 TXD/P35

## WT2003S-16S/UE
designator U*
WT2003S-16S at USB Disk Emulation Mode. A Audio Decoder Chip from waytronic. Which can support  with 8~48KHz MP3 or 8~44.1KHz WAV.; ComponentLink1Description: Webaite; ComponentLink1URL: http://www.waytronic.com/ProductsStd_287.html
footprint WT2003S-16S
pins: 1 DACL, 2 DACR, 3 VSS, 4 VDDIO, 5 VDDLDO, 6 GND, 7 RESET, 8 SPI-CLK, 9 SPI-DATA, 10 SPI-CS, 11 DM, 12 DP, 13 ADKEY, 14 BUSY, 15 RXD, 16 TXD

## XC6216B902PR-G
designator U?
XC6216B902PR-G, TOREX 28v LDO, 150mA, 9v output; Vendor: Torex Semiconductor; Built_By: EMA_UL_Team; Manufacturer_Part_Number: XC6216B902PR-G; Copyright: Copyright (C) 2018 Accelerated Designs. All rights reserved; RefDes: RefDes; Type: DEV; Value: Value
footprint SOT-89-5
pins: 1 VOUT (out), 2 VSS, 3 CE, 4 NC, 5 VIN (power)

## XKB-TM-2023
designator SW*, comment TM-2023
XKB Connectivity, TM-2023, Multifunction Switchs, 3 Positions. SMD, 9.5x8.9x2.2
footprint XKB-TM-2023 (XKB Multifunction switch, 3-positions, TM-2023)
pins: 1, 2, C COM, FS1 FS, FS2 FS, FS3 FS, FS4 FS, T TOGGLE

## XKB-TM-2024A
designator SW*, comment TM-2024A
XKB Connectivity, TM-2024A, Multifunction Switchs, 3 Positions. SMD, 9.5x8.9x2.2
footprint XKB-TM-2024A (XKB Multifunction switch, 3-positions, TM-2024A)
pins: 1, 2, C COM, FS1 FS, FS2 FS, FS3 FS, FS4 FS, T TOGGLE

## XSS_POGO_G1_127/150
designator P*
a pogo pins group interface  from XSS Studio
footprint XSS_POGO_G1L_127/150 (XSS Studio pogo group for 1.27mm and 1.50mm，Large pad with P50)
footprint XSS_POGO_G1S_127/150 (XSS Studio pogo group for 1.27mm and 1.50mm， small pad using P50)
pins: 1, 2, 3, 4, 5, 6, 7, 8, 9, 10, 11, 12, 13, 14, 15, 16, 17, 18, 19, 20, 21, 22, 23, 24

## XSS_POGO_G2_200/254
designator P*
a pogo pins group interface  from XSS Studio
footprint XSS_POGO_G2L_200/254 (XSS Studio pogo group for 2.0mm and 2.54mm， large pad using P75)
footprint XSS_POGO_G2S_200/254 (XSS Studio pogo group for 2.0mm and 2.54mm， small size using P75)
pins: 1, 2, 3, 4, 5, 6, 7, 8, 9, 10, 11, 12, 13, 14, 15, 16, 17, 18, 19, 20, 21, 22, 23, 24

## XSS_POGO_G3_127/150/200/254
designator P*
a pogo pins group interface  from XSS Studio
footprint XSS_POGO_G3L_127/150/200/254 (XSS Studio pogo group for 1.27mm 1.50mm 2.0mm and 2.54mm， large pad using P50 and P75)
footprint XSS_POGO_G3S_127/150/200/254 (XSS Studio pogo group for 1.27mm 1.50mm 2.0mm and 2.54mm， large pad using P50 and P75)
pins: 1, 2, 3, 4, 5, 6, 7, 8, 9, 10, 11, 12, 13, 14, 15, 16, 17, 18, 19, 20, 21, 22, 23, 24, 25, 26, 27, 28

## ZJY096T-IG11
designator LCD*
中景园0.96寸TFT液晶屏，多用于手环，160*80分辨率，焊接款13Pin
footprint ZJY096T-IG11
pins: 1 TP0, 2 TP1, 3 SDA, 4 SCL, 5 RS, 6 RESET, 7 NCS, 8 GND, 9 NC, 10 VDD, 11 LEDK, 12 LEDA, 13 GND

## π120U30
designator U*
π120U30, 增强 ESD 功能，3.0kV/5.0kV rms 隔离电压,150kbps 双通道数字隔离器 .双输入隔离。失控电平为低。
footprint SOIC8_HV (ISO1211 or others package. SOIC-8)
pins: 1 VDD1 (power), 2 VIA (in), 3 VIB (in), 4 GND1 (power), 5 GND2 (power), 6 VOB (out), 7 VOA (out), 8 VDD2 (power)

## π120U31
designator U*
π120U31, 增强 ESD 功能，3.0kV/5.0kV rms 隔离电压,150kbps 双通道数字隔离器 .双输入隔离。失控电平为高。
footprint SOIC8_HV (ISO1211 or others package. SOIC-8)
pins: 1 VDD1 (power), 2 VIA (in), 3 VIB (in), 4 GND1 (power), 5 GND2 (power), 6 VOB (out), 7 VOA (out), 8 VDD2 (power)

## π121U31
designator U*
π121U31, 增强 ESD 功能，3.0kV/5.0kV rms 隔离电压,150kbps 双通道数字隔离器 .一进一出。失控电平为高。
footprint SOIC8_HV (ISO1211 or others package. SOIC-8)
pins: 1 VDD1 (power), 2 VIA (in), 3 VOB (out), 4 GND1 (power), 5 GND2 (power), 6 VIB (in), 7 VOA (out), 8 VDD2 (power)

## π122U31
designator U*
π122U31, 增强 ESD 功能，3.0kV/5.0kV rms 隔离电压,150kbps 双通道数字隔离器 .一进一出隔离。失控电平为高。
footprint SOIC8_HV (ISO1211 or others package. SOIC-8)
pins: 1 VDD1 (power), 2 VOA (out), 3 VIB (in), 4 GND1 (power), 5 GND2 (power), 6 VOB (out), 7 VIA (in), 8 VDD2 (power)